# EAGLE library part 87832-08 (library con-molex)
Milli-Grid Header 2.00mm (.079") Pitch
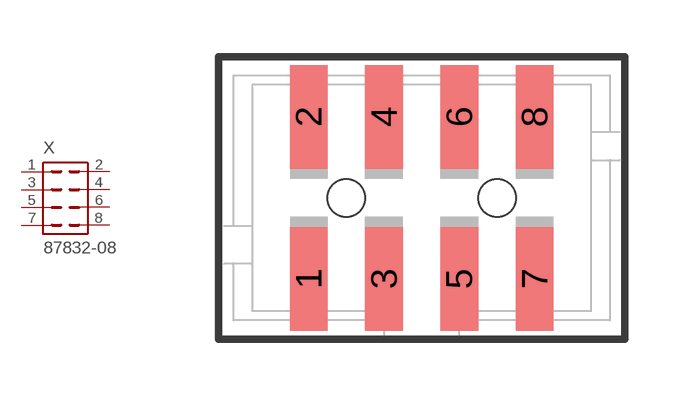
[diagram p32: symbol with the pads of 87832-08; footprint 87832-08]

Designator prefix X

## 87832-08  [87832-08]
1  1  pas
2  2  pas
3  3  pas
4  4  pas
5  5  pas
6  6  pas
7  7  pas
8  8  pas

## Footprint 87832-08 (pad centres in mm)
PCB Headers 2.00mm (.079") Pitch Milli-Grid Header, Vertical, Shrouded
smd 1 x 2.75: 1 -3,-2.15; 2 -3,2.15; 3 -1,-2.15; 4 -1,2.15; 5 1,-2.15; 6 1,2.15; 7 3,-2.15; 8 3,2.15
hole 1 at -2,0
hole 1 at 2,0